# Altium integrated library KTR18EZPF9530.IntLib: 1 symbol
Pins are listed as number, name and electrical type; pins without a type are passive.

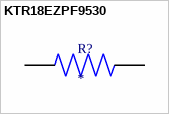
[diagram p0: symbol KTR18EZPF9530]

## KTR18EZPF9530
designator R?
MP: KTR18EZPF9530; Package: None; Price: None; Value: *; Availability: Unavailable
footprint RESC3216X65N
pins: 1, 2